# Altium footprint library HPAL1V0630.PcbLib: 1 footprints
Each footprint in its own frame and in the unit in brackets; x right, y up, seen from the top. Pads: shape width x height; smd on the part's side, far side on the other; paste and mask are expansions set on the pad; w line width, h text height; cw(c..) or ccw(c..) is an arc to the next point about the centre after c.
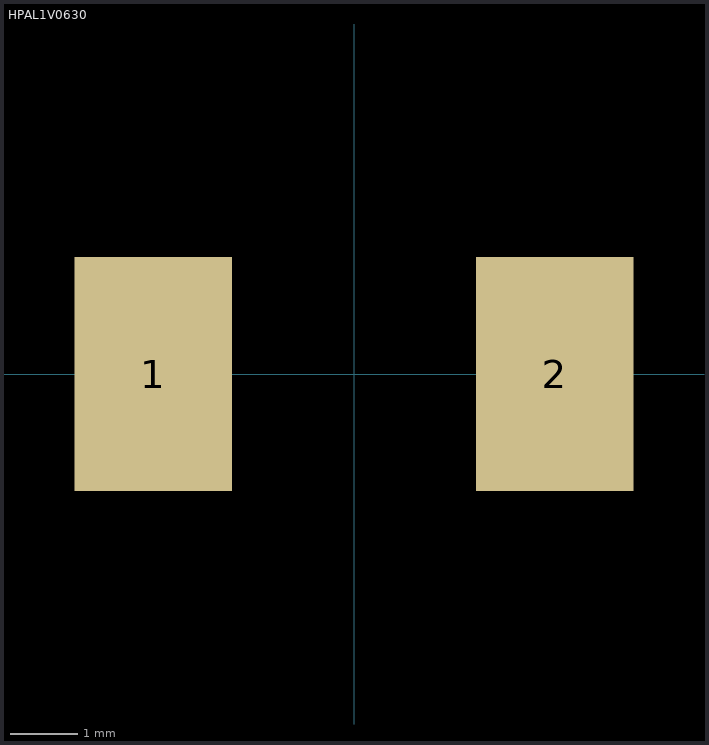
[diagram p0: the footprint, top view; thin cyan lines are the x and y axes]

## HPAL1V0630 [mm]
height 3
pads (2):
  rect 2.35x3.5 smd: 1(-3,0) 2(3,0)
3D body: height 3, standoff 0, extent -3.5,-3.3 3.5,3.4